# Altium footprint library Smart_Gateway_Rev1.0_2.PcbLib: 45 footprints (part 2 of 3)
Each footprint in its own frame and in the unit in brackets; x right, y up, seen from the top. Pads: shape width x height; smd on the part's side, far side on the other; paste and mask are expansions set on the pad; w line width, h text height; cw(c..) or ccw(c..) is an arc to the next point about the centre after c.
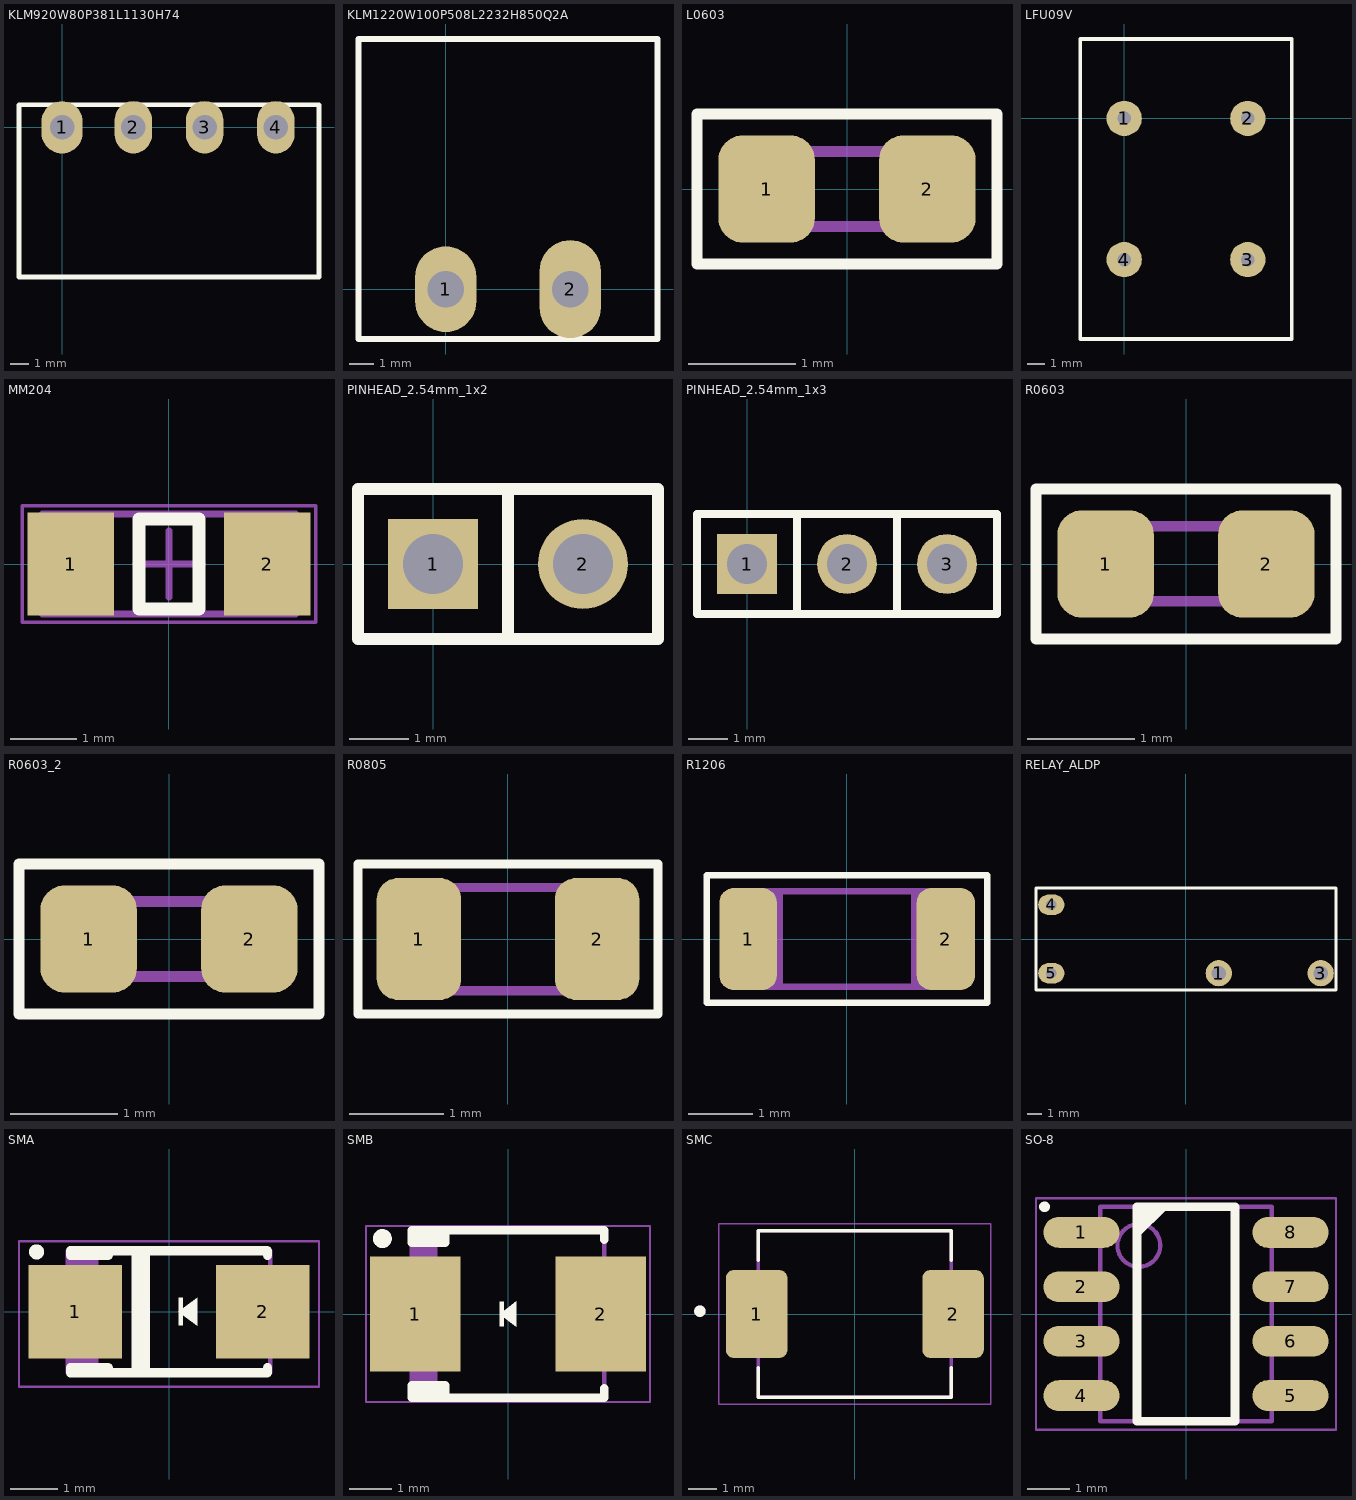
[diagram p1: the footprints below, top view; thin cyan lines are the x and y axes]

## KLM920W80P381L1130H74 [mm]
pads (4):
  oval 2.2x2.8 hole 1.3: 1(0,0)
  oval 2x2.8 hole 1.3: 2(3.81,0) 3(7.62,0) 4(11.43,0)
Top Overlay:
  lines w0.254: -2.305,-8 13.735,-8 13.735,1.2 -2.305,1.2 -2.305,-8
3D body "PV04-3,81-H-P.stp": height 7.26, standoff -3.39, extent -2.305,-8 13.735,1.2

## KLM1220W100P508L2232H850Q2A [mm]
pads (2):
  oval 2.5x3.5 hole 1.5: 1(0,0)
  oval 2.5x4 hole 1.5: 2(5.08,0)
Top Overlay:
  lines w0.254: -3.56,-2.032 8.64,-2.032 8.64,10.2 -3.56,10.2 -3.56,-2.032
3D body "PV02-5,08-H-P.stp": height 8.51, standoff -4.09, extent -3.54,-1.9 8.62,10.1

## L0603 [mm]
pads (2):
  rrect50% 0.9x1 smd: 1(-0.75,0) 2(0.75,0)
Top Overlay:
  lines w0.1: -1.4,-0.7 -1.4,0.7 1.4,0.7 1.4,-0.7 -1.4,-0.7
Mechanical 13:
  rectangle: -0.5,0.3 0.5,0.4
  rectangle: -0.5,-0.4 0.5,-0.3
  rectangle: 0.5,-0.4 0.8,0.4
  rectangle: -0.8,-0.4 -0.5,0.4
Mechanical 15:
  lines w0.05: -1.4,-0.7 1.4,-0.7 1.4,0.7 -1.4,0.7 -1.4,-0.7
  text ".Designator" at -1.1,-0.1 h0.5
3D body "User Library-Chip Inductor (1).step": height 0.8, standoff 0, extent -0.8,-0.475 0.8,0.475

## LFU09V [mm]
pads (4):
  round 2 hole 0.762: 1(0,0) 2(7,0) 3(7,-8) 4(0,-8)
Top Overlay:
  lines w0.2: -2.5,4.496 -2.5,-12.5 9.5,-12.5 9.5,4.5 -2.5,4.5
3D body "Coilcraft-BU9S-XXXXXXL.step": height 13.77, standoff -5.99, extent -2,-11.9 9,3.9

## MM204 [mm] "MELF Resistor, 2-Leads, Body 3.60x1.40mm, IPC High Density"
height 1.5
pads (2):
  rect 1.3x1.55 smd: 1(-1.475,0) 2(1.475,0)
Top Overlay:
  lines w0.2: -0.45,-0.675 -0.45,0.675 0.45,0.675 0.45,-0.675 -0.45,-0.675
Mechanical 13:
  lines w0.1: -1.9,-0.75 1.9,-0.75 1.9,0.75 -1.9,0.75 -1.9,-0.75
Mechanical 15:
  lines w0.05: -2.2,-0.875 2.2,-0.875 2.2,0.875 -2.2,0.875 -2.2,-0.875
  lines w0.1: -0.5,0 0.5,0 ; 0,-0.5 0,0.5
3D body "RESMELF3614L.step": height 1.4, standoff 0.01, extent -1.8,-0.699 1.8,0.699

## PINHEAD_2.54mm_1x2 [mil]
pads (2):
  rect 60x60 hole 40: 1(0,0)
  round 60 hole 40: 2(100,0)
Top Overlay:
  lines w7.87: 50,-50 -50,-50 -50,50 50,50 ; 50,-50 50,50 ; 50,-50 50,50 ; 50,-50 150,-50 150,50 50,50
3D body "User Library-HDR1X1 Rectangular Straight.step": height 339.58, standoff -124.98, extent -53.14,-53.15 53.16,53.15
3D body "User Library-HDR1X1 Rectangular Straight.step": height 339.58, standoff -124.98, extent 46.86,-53.14 153.16,53.16

## PINHEAD_2.54mm_1x3 [mil]
pads (3):
  rect 60x60 hole 40: 1(0,0)
  round 60 hole 40: 2(100,0) 3(200,0)
Top Overlay:
  lines w7.87: 50,-50 150,-50 ; 50,-50 50,50 ; 50,-50 50,50 ; 50,-50 -50,-50 -50,50 50,50 ; 50,50 150,50 ; 150,-50 150,50 ; 150,-50 150,50 ; 150,-50 250,-50 250,50 150,50
3D body "User Library-HDR1X1 Rectangular Straight.step": height 339.58, standoff -124.98, extent 46.86,-53.14 153.16,53.16
3D body "User Library-HDR1X1 Rectangular Straight.step": height 339.58, standoff -124.98, extent -53.14,-53.15 53.16,53.15
3D body "User Library-HDR1X1 Rectangular Straight.step": height 339.58, standoff -124.98, extent 146.86,-53.15 253.16,53.15

## R0603 [mm]
pads (2):
  rrect50% 0.9x1 smd: 1(-0.75,0) 2(0.75,0)
Top Overlay:
  lines w0.1: -1.4,-0.7 -1.4,0.7 1.4,0.7 1.4,-0.7 -1.4,-0.7
Mechanical 13:
  rectangle: -0.5,0.303 0.5,0.403
  rectangle: -0.5,-0.397 0.5,-0.297
  rectangle: 0.5,-0.4 0.8,0.4
  rectangle: -0.8,-0.4 -0.5,0.4
Mechanical 15:
  lines w0.05: -1.4,-0.7 1.4,-0.7 1.4,0.7 -1.4,0.7 -1.4,-0.7
  text ".Designator" at -1.1,-0.1 h0.5
3D body "RES0603.stp": height 0.45, standoff 0, extent -0.8,-0.4 0.8,0.4

## R0603_2 [mm]
pads (2):
  rrect50% 0.9x1 smd: 1(-0.75,0) 2(0.75,0)
Top Overlay:
  lines w0.1: -1.4,-0.7 -1.4,0.7 1.4,0.7 1.4,-0.7 -1.4,-0.7
Mechanical 13:
  rectangle: -0.5,0.3 0.5,0.4
  rectangle: -0.5,-0.4 0.5,-0.3
  rectangle: 0.5,-0.4 0.8,0.4
  rectangle: -0.8,-0.4 -0.5,0.4
Mechanical 15:
  lines w0.05: -1.4,-0.7 1.4,-0.7 1.4,0.7 -1.4,0.7 -1.4,-0.7
  text ".Designator" at -1.1,-0.1 h0.5
3D body "RES0603.stp": height 0.45, standoff 0, extent -0.8,-0.4 0.8,0.4

## R0805 [mm]
pads (2):
  rrect50% 0.9x1.3 smd: 1(-0.95,0) 2(0.95,0)
Top Overlay:
  lines w0.1: -1.6,-0.8 -1.6,0.8 1.6,0.8 1.6,-0.8 -1.6,-0.8
Mechanical 13:
  rectangle: -0.6,0.5 0.6,0.6
  rectangle: -0.6,-0.6 0.6,-0.5
  rectangle: 0.6,-0.6 1,0.6
  rectangle: -1,-0.6 -0.6,0.6
Mechanical 15:
  lines w0.05: -1.6,-0.8 1.6,-0.8 1.6,0.8 -1.6,0.8 -1.6,-0.8
  text ".Designator" at -1.4,-0.2 h0.75
3D body "RES0805.stp": height 0.5, standoff 0, extent -1,-0.63 1,0.62

## R1206 [mm]
pads (2):
  rrect50% 0.9x1.6 smd: 1(-1.55,0)
  rrect50% 0.914x1.6 smd: 2(1.55,0)
Top Overlay:
  lines w0.1: -2.2,-1 -2.2,1 2.2,1 2.2,-1 -2.2,-1
Mechanical 13:
  region: 1,-0.7 -1,-0.7 -1,-0.8 1,-0.8
  rectangle: -1,0.7 1,0.8
  rectangle: -1.6,-0.801 -1,0.799
  region: 1.601,0.8 1.001,0.8 1.001,-0.8 1.601,-0.8
Mechanical 15:
  lines w0.05: -2.2,-1 -2.2,1 2.2,1 2.2,-1 -2.2,-1
  text ".Designator" at -1.9,-0.2 h1
3D body "User Library-R1206.step": height 0.47, standoff 0, extent -1.55,-0.776 1.55,0.776

## RELAY_ALDP [mm]
pads (4):
  round 1.8 hole 1: 1(2.25,-2.351) 3(9.25,-2.351)
  oval 1.8x1.4 hole 0.7: 4(-9.25,2.351) 5(-9.248,-2.351)
Top Overlay:
  lines w0.2: -10.3,-3.499 10.3,-3.499 ; -10.3,-3.488 -10.3,3.5 10.3,3.501 ; 10.3,-3.5 10.3,3.488
3D body: height 16, standoff 0, extent -10.272,-3.492 10.3,3.493

## SMA [mm] "Molded, 2-Leads, Body 4.6x3.95mm"
height 2.42
pads (2):
  rect 2x2 smd: 1(-2,0) 2(2,0)
Top Overlay:
  circle w0.25: c-2.825,1.275 r0.035
  rectangle: 0.2,-0.301 0.3,0.299
  rectangle: -0.8,-1.3 -0.4,1.3
  region: 0.6,0.3 0.6,-0.3 0.2,0
  lines w0.2: -1.3,-1.3 -1.3,-1.2 -2.1,-1.2 -2.1,-1.3 2.1,-1.3 2.1,-1.2 ; -1.3,1.3 -1.3,1.2 -2.1,1.2 -2.1,1.3 2.1,1.3 2.1,1.2
Mechanical 13:
  rectangle: -2.16,-1.3 -1.5,1.3
  lines w0.1: -2.16,-1.3 -2.16,1.3 2.16,1.3 2.16,-1.3 -2.16,-1.3
Mechanical 15:
  lines w0.05: -3.2,-1.6 -3.2,1.5 3.2,1.5 3.2,-1.6 -3.2,-1.6
  text ".Designator" at -3.2,-0.4 h1.5
3D body "User Library-DO-214AC_SMA.step": height 2.2, standoff 0, extent -2.5,-1.35 2.5,1.35

## SMB [mm] "Molded, 2-Leads, Body 4.6x3.95mm"
height 2.42
pads (2):
  rect 2.159x2.743 smd: 1(-2.21,0) 2(2.21,0)
Top Overlay:
  circle w0.25: c-3,1.8 r0.1
  rectangle: -0.2,-0.3 -0.1,0.3
  rectangle: -2.3,1.7 -1.5,2
  rectangle: -2.3,-2 -1.5,-1.7
  region: 0.2,0.3 0.2,-0.3 -0.2,0
  lines w0.2: -2.3,1.772 -2.3,2 ; -1.5,-2 -1.5,-1.7 -2.3,-1.7 -2.3,-2 2.3,-2 2.3,-1.772 ; -1.5,2 -1.5,1.7 -2.3,1.7 -2.3,2 ; 2.3,1.772 2.3,2 -2.3,2
Mechanical 13:
  rectangle: -2.3,-1.975 -1.681,1.975
  lines w0.1: -2.3,-1.975 -2.3,1.975 2.3,1.975 2.3,-1.975 -2.3,-1.975
Mechanical 15:
  lines w0.05: -3.39,-2.1 -3.39,2.1 3.39,2.1 3.39,-2.1 -3.39,-2.1
  text ".Designator" at -3.2,-0.4 h1.5
3D body "User Library-DO-214AA_SMB.step": height 2.25, standoff 0, extent -2.65,-1.85 2.65,1.85

## SMC [mm]
pads (2):
  rrect25% 2.18x3.12 smd: 1(-3.485,0) 2(3.485,0)
Top Overlay:
  circle w0.2: c-5.5,0.1 r0.1
  lines w0.127: -3.427,-1.9 -3.427,-2.953 3.427,-2.953 3.427,-1.9 ; -3.427,1.9 -3.427,2.953 3.427,2.953 3.427,1.9
Mechanical 13:
  circle w0.2: c-5.5,0.1 r0.1
  lines w0.127: -3.427,-2.953 -3.427,2.953 3.427,2.953 3.427,-2.953 -3.427,-2.953
Mechanical 15:
  lines w0.05: -4.825,-3.203 -4.825,3.203 4.825,3.203 4.825,-3.203 -4.825,-3.203
3D body "SMCJ14CA.STEP": height 2.63, standoff 0.01, extent -3.969,-2.953 3.969,2.953

## SO-8 [mm] "SOIC, 8-Leads, Body 4.90x3.90mm, Pitch 1.27mm, IPC Medium Density"
height 1.75
pads (8):
  oval 1.78x0.72 smd: 1(-2.44,1.905) 2(-2.44,0.635) 3(-2.44,-0.635) 4(-2.44,-1.905) 5(2.44,-1.905) 6(2.44,-0.635) 7(2.44,0.635) 8(2.44,1.905)
Top Overlay:
  circle w0.25: c-3.3,2.5 r0
  region: -0.45,2.45 -1.1,1.8 -1.1,2.45
  lines w0.2: -1.143,-2.5 1.143,-2.5 1.143,2.5 -1.143,2.5 -1.143,-2.5
Mechanical 13:
  circle w0.1: c-1.1,1.6 r0.5
  lines w0.1: -2,-2.5 2,-2.5 2,2.5 -2,2.5 -2,-2.5
Mechanical 15:
  lines w0.05: -3.5,-2.7 3.5,-2.7 3.5,2.7 -3.5,2.7 -3.5,-2.7
  text ".Designator" at -3.4,1.6 h1.5
3D body "User Library-SO8-1.step": height 1.75, standoff 0, extent -3.1,-2.5 3.1,2.5